# Altium footprint library SPM0408LE5H-TB.PcbLib: 1 footprints
Each footprint in its own frame and in the unit in brackets; x right, y up, seen from the top. Pads: shape width x height; smd on the part's side, far side on the other; paste and mask are expansions set on the pad; w line width, h text height; cw(c..) or ccw(c..) is an arc to the next point about the centre after c.
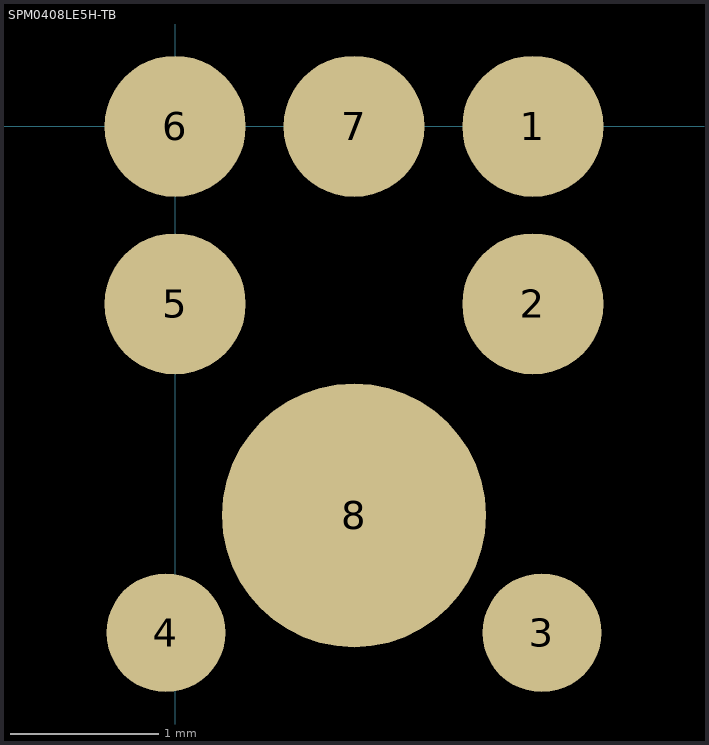
[diagram p0: the footprint, top view; thin cyan lines are the x and y axes]

## SPM0408LE5H-TB [mm]
pads (8):
  round 0.95 smd: 1(2.408,0) 2(2.408,-1.194) 5(0,-1.194) 6(0,0) 7(1.204,0)
  round 0.8 smd: 3(2.468,-3.407) 4(-0.062,-3.407)
  round 1.776 smd: 8(1.204,-2.617)